# EAGLE library part 74HCT4094D (library NXP_By_element14_Batch_1)
8-stage shift-and-store bus register
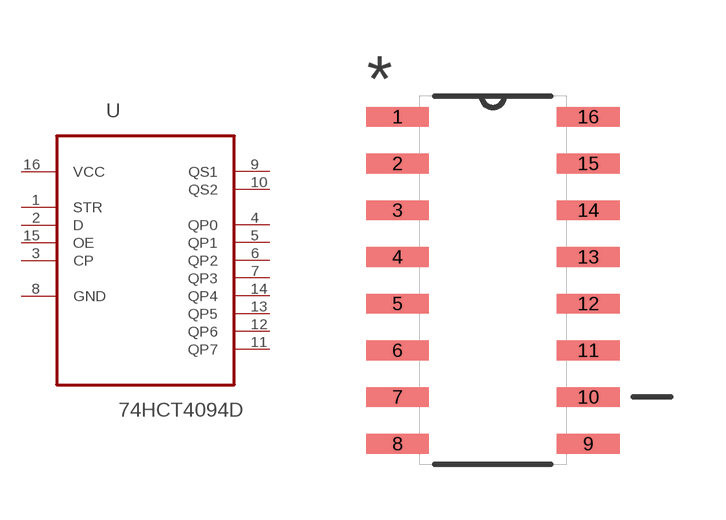
[diagram p204: symbol with the pads of SOIC127P600X175-16N; footprint SOIC127P600X175-16N]

Designator prefix U

## 74HCT4094D (MPN: 74HCT4094D; OC_FARNELL: 1085326; OC_NEWARK: 99K0561; PACKAGE: SOIC-16; SUPPLIER: NXP)  [SOIC127P600X175-16N]
1  STR  in
2  D  in
3  CP  in
4  QP0  out
5  QP1  out
6  QP2  out
7  QP3  out
8  GND  pas
9  QS1  out
10  QS2  out
11  QP7  out
12  QP6  out
13  QP5  out
14  QP4  out
15  OE  in
16  VCC  pwr

## Footprint SOIC127P600X175-16N (pad centres in mm)
smd 1.702 x 0.533: 1 -2.591,4.445; 2 -2.591,3.175; 3 -2.591,1.905; 4 -2.591,0.635; 5 -2.591,-0.635; 6 -2.591,-1.905; 7 -2.591,-3.175; 8 -2.591,-4.445; 9 2.591,-4.445; 10 2.591,-3.175; 11 2.591,-1.905; 12 2.591,-0.635; 13 2.591,0.635; 14 2.591,1.905; 15 2.591,3.175; 16 2.591,4.445